# Altium integrated library NSC MiscPower.IntLib: 675 symbols (part 15 of 17)
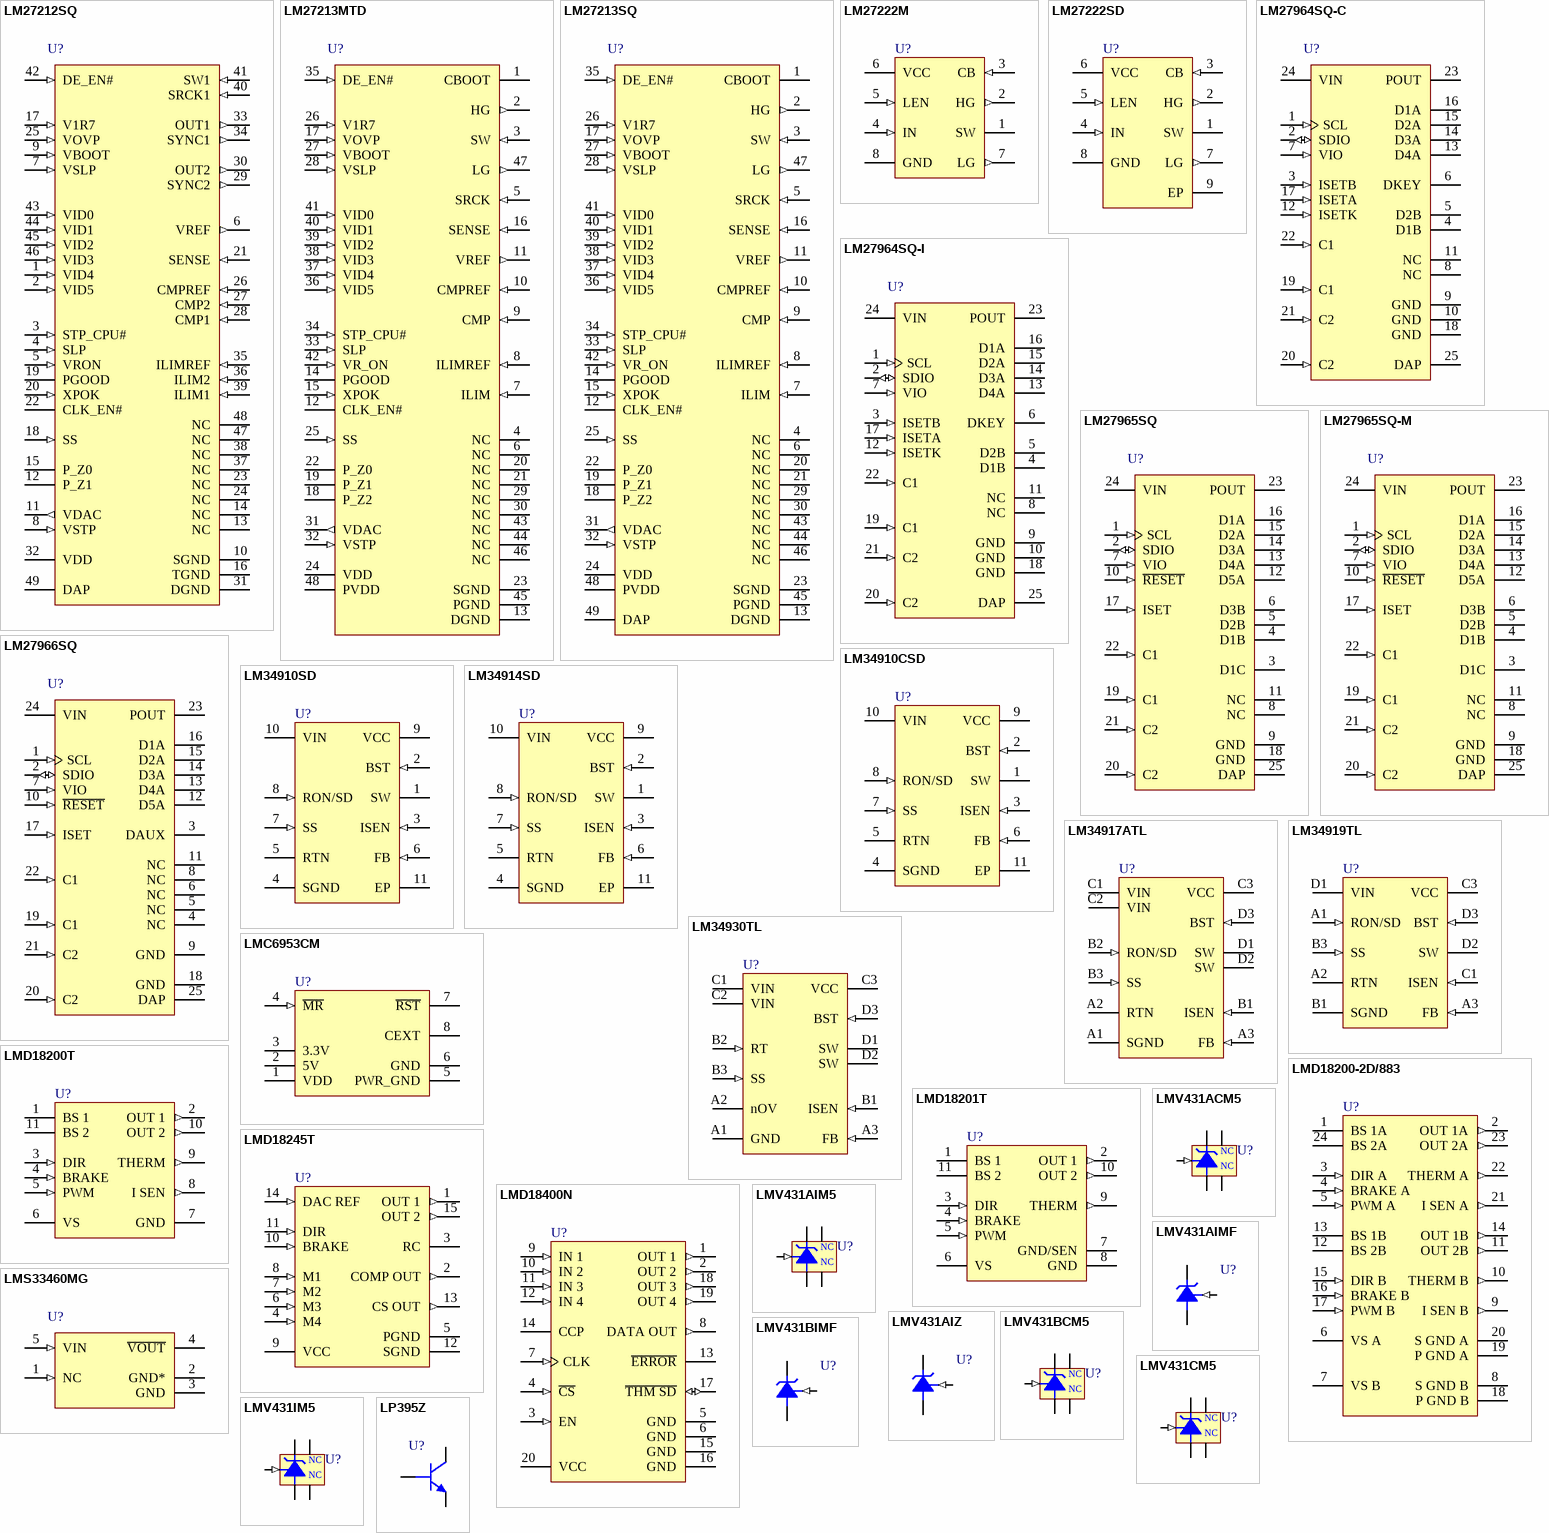
[diagram p36: symbols LM27212SQ to LP395Z]

## LMV431AIM5
designator U?
Low-Voltage (1.24V) Adjustable Precision Shunt Regulators; PartNumber: LMV431AIM5; Manufacturer: National Semiconductor; CompType: MiscPower; PackageTopMarking: N08A*XTT; Published: 4-Dec-2008; DatasheetVersion: May-2005; PackageVersion: revD, Aug-2008; PackageReference: MF05A; Publisher: Altium Limited; PackageDescription: Molded SOT-23, .115 x .063 x .040 in Body, 5 Lead, .0375 in Pitch; RoHS: O; PinCount: 5; DigiKeyPartNumber: LMV431AIM5CT-ND; Code_IPC: SOT23-5; ComponentLink1Description: LMV431A Datasheet; ComponentLink1URL: http://www.national.com/ds/LM/LMV431A.pdf; ComponentLink2Description: LMV431A Web Page; ComponentLink2URL: http://www.national.com/pf/LM/LMV431A.html; ComponentLink3Description: MF05A Package Page; ComponentLink3URL: http://www.national.com/packaging/folders/mf05a.html
footprint MF05A_N (SOT23, 5-Leads, Body 2.9x1.6mm, Pitch 0.95mm, Lead Span 2.8mm, IPC Medium Density)
footprint MF05A_L (SOT23, 5-Leads, Body 2.9x1.6mm, Pitch 0.95mm, Lead Span 2.8mm, IPC High Density)
footprint MF05A_M (SOT23, 5-Leads, Body 2.9x1.6mm, Pitch 0.95mm, Lead Span 2.8mm, IPC Low Density)
pins: 1 NC, 2 NC, 3 K, 4 REF (in), 5 A

## LMV431AIMF
designator U?
Low-Voltage (1.24V) Adjustable Precision Shunt Regulators; PartNumber: LMV431AIMF; Manufacturer: National Semiconductor; CompType: MiscPower; PackageTopMarking: RLA*XTT; Published: 4-Dec-2008; DatasheetVersion: May-2005; PackageVersion: revB, Mar-2003; PackageReference: MF03A; Publisher: Altium Limited; PackageDescription: Molded SOT-23, .115 x .051 x .037in Body, 3 Lead, .075 in Pitch; RoHS: Y; PinCount: 3; DigiKeyPartNumber: LMV431AIMF-ND; ComponentLink1Description: LMV431A Datasheet; ComponentLink1URL: http://www.national.com/ds/LM/LMV431A.pdf; ComponentLink2Description: LMV431A Web Page; ComponentLink2URL: http://www.national.com/pf/LM/LMV431A.html; ComponentLink3Description: MF03A Package Page; ComponentLink3URL: http://www.national.com/packaging/folders/mf03a.html
footprint MF03A_N (SOT23, 3-Leads, Body 2.9x1.3mm, Pitch 0.95mm, Lead Span 2.4mm, IPC Medium Density)
footprint MF03A_L (SOT23, 3-Leads, Body 2.9x1.3mm, Pitch 0.95mm, Lead Span 2.4mm, IPC High Density)
footprint MF03A_M (SOT23, 3-Leads, Body 2.9x1.3mm, Pitch 0.95mm, Lead Span 2.4mm, IPC Low Density)
pins: 1 REF (in), 2 K, 3 A

## LMV431AIZ
designator U?
Low-Voltage (1.24V) Adjustable Precision Shunt Regulators; PartNumber: LMV431AIZ; Manufacturer: National Semiconductor; CompType: MiscPower; PackageTopMarking: NSXYTT*LMV431*AIZ; Published: 4-Dec-2008; DatasheetVersion: May-2005; PackageVersion: revG, Sep-2000; PackageReference: Z03A; Publisher: Altium Limited; PackageDescription: TO-92, Molded, 3 Lead; RoHS: Y; PinCount: 3; DigiKeyPartNumber: LMV431AIZ-ND; Code_JEDEC: TO-226-AA; ComponentLink1Description: LMV431A Datasheet; ComponentLink1URL: http://www.national.com/ds/LM/LMV431A.pdf; ComponentLink2Description: LMV431A Web Page; ComponentLink2URL: http://www.national.com/pf/LM/LMV431A.html; ComponentLink3Description: Z03A Package Page; ComponentLink3URL: http://www.national.com/packaging/folders/z03a.html
footprint Z03A (TO, Flat Index; 3 In-Line, Axial Leads; Body Dia. 5mm; Leads 0.55 x 0.50 mm (max))
pins: 1 REF (in), 2 A, 3 K

## LMV431BCM5
designator U?
Low-Voltage (1.24V) Adjustable Precision Shunt Regulators; PartNumber: LMV431BCM5; Manufacturer: National Semiconductor; CompType: MiscPower; PackageTopMarking: N09C*XTT; Published: 4-Dec-2008; DatasheetVersion: May-2005; PackageVersion: revD, Aug-2008; PackageReference: MF05A; Publisher: Altium Limited; PackageDescription: Molded SOT-23, .115 x .063 x .040 in Body, 5 Lead, .0375 in Pitch; RoHS: Y; PinCount: 5; DigiKeyPartNumber: LMV431BCM5-ND; Code_IPC: SOT23-5; ComponentLink1Description: LMV431B Datasheet; ComponentLink1URL: http://www.national.com/ds/LM/LMV431B.pdf; ComponentLink2Description: LMV431B Web Page; ComponentLink2URL: http://www.national.com/pf/LM/LMV431B.html; ComponentLink3Description: MF05A Package Page; ComponentLink3URL: http://www.national.com/packaging/folders/mf05a.html
footprint MF05A_N (SOT23, 5-Leads, Body 2.9x1.6mm, Pitch 0.95mm, Lead Span 2.8mm, IPC Medium Density)
footprint MF05A_L (SOT23, 5-Leads, Body 2.9x1.6mm, Pitch 0.95mm, Lead Span 2.8mm, IPC High Density)
footprint MF05A_M (SOT23, 5-Leads, Body 2.9x1.6mm, Pitch 0.95mm, Lead Span 2.8mm, IPC Low Density)
pins: 1 NC, 2 NC, 3 K, 4 REF (in), 5 A

## LMV431BIMF
designator U?
Low-Voltage (1.24V) Adjustable Precision Shunt Regulators; PartNumber: LMV431BIMF; Manufacturer: National Semiconductor; CompType: MiscPower; PackageTopMarking: RLB*XTT; Published: 4-Dec-2008; DatasheetVersion: May-2005; PackageVersion: revB, Mar-2003; PackageReference: MF03A; Publisher: Altium Limited; PackageDescription: Molded SOT-23, .115 x .051 x .037in Body, 3 Lead, .075 in Pitch; RoHS: Y; PinCount: 3; DigiKeyPartNumber: LMV431BIMF-ND; ComponentLink1Description: LMV431B Datasheet; ComponentLink1URL: http://www.national.com/ds/LM/LMV431B.pdf; ComponentLink2Description: LMV431B Web Page; ComponentLink2URL: http://www.national.com/pf/LM/LMV431B.html; ComponentLink3Description: MF03A Package Page; ComponentLink3URL: http://www.national.com/packaging/folders/mf03a.html
footprint MF03A_N (SOT23, 3-Leads, Body 2.9x1.3mm, Pitch 0.95mm, Lead Span 2.4mm, IPC Medium Density)
footprint MF03A_L (SOT23, 3-Leads, Body 2.9x1.3mm, Pitch 0.95mm, Lead Span 2.4mm, IPC High Density)
footprint MF03A_M (SOT23, 3-Leads, Body 2.9x1.3mm, Pitch 0.95mm, Lead Span 2.4mm, IPC Low Density)
pins: 1 REF (in), 2 K, 3 A

## LMV431CM5
designator U?
Low-Voltage (1.24V) Adjustable Precision Shunt Regulators; PartNumber: LMV431CM5; Manufacturer: National Semiconductor; CompType: MiscPower; PackageTopMarking: N09B*XTT; Published: 4-Dec-2008; DatasheetVersion: May-2005; PackageVersion: revD, Aug-2008; PackageReference: MF05A; Publisher: Altium Limited; PackageDescription: Molded SOT-23, .115 x .063 x .040 in Body, 5 Lead, .0375 in Pitch; RoHS: O; PinCount: 5; DigiKeyPartNumber: LMV431CM5CT-ND; Code_IPC: SOT23-5; ComponentLink1Description: LMV431 Datasheet; ComponentLink1URL: http://www.national.com/ds/LM/LMV431.pdf; ComponentLink2Description: LMV431 Web Page; ComponentLink2URL: http://www.national.com/pf/LM/LMV431.html; ComponentLink3Description: MF05A Package Page; ComponentLink3URL: http://www.national.com/packaging/folders/mf05a.html
footprint MF05A_N (SOT23, 5-Leads, Body 2.9x1.6mm, Pitch 0.95mm, Lead Span 2.8mm, IPC Medium Density)
footprint MF05A_L (SOT23, 5-Leads, Body 2.9x1.6mm, Pitch 0.95mm, Lead Span 2.8mm, IPC High Density)
footprint MF05A_M (SOT23, 5-Leads, Body 2.9x1.6mm, Pitch 0.95mm, Lead Span 2.8mm, IPC Low Density)
pins: 1 NC, 2 NC, 3 K, 4 REF (in), 5 A

## LMV431IM5
designator U?
Low-Voltage (1.24V) Adjustable Precision Shunt Regulators; PartNumber: LMV431IM5; Manufacturer: National Semiconductor; CompType: MiscPower; PackageTopMarking: N08B*XTT; Published: 4-Dec-2008; DatasheetVersion: May-2005; PackageVersion: revD, Aug-2008; PackageReference: MF05A; Publisher: Altium Limited; PackageDescription: Molded SOT-23, .115 x .063 x .040 in Body, 5 Lead, .0375 in Pitch; RoHS: O; PinCount: 5; DigiKeyPartNumber: LMV431IM5CT-ND; Code_IPC: SOT23-5; ComponentLink1Description: LMV431 Datasheet; ComponentLink1URL: http://www.national.com/ds/LM/LMV431.pdf; ComponentLink2Description: LMV431 Web Page; ComponentLink2URL: http://www.national.com/pf/LM/LMV431.html; ComponentLink3Description: MF05A Package Page; ComponentLink3URL: http://www.national.com/packaging/folders/mf05a.html
footprint MF05A_N (SOT23, 5-Leads, Body 2.9x1.6mm, Pitch 0.95mm, Lead Span 2.8mm, IPC Medium Density)
footprint MF05A_L (SOT23, 5-Leads, Body 2.9x1.6mm, Pitch 0.95mm, Lead Span 2.8mm, IPC High Density)
footprint MF05A_M (SOT23, 5-Leads, Body 2.9x1.6mm, Pitch 0.95mm, Lead Span 2.8mm, IPC Low Density)
pins: 1 NC, 2 NC, 3 K, 4 REF (in), 5 A

## LP395Z
designator U?
Ultra Reliable Power Transistor; PartNumber: LP395Z; Manufacturer: National Semiconductor; CompType: MiscPower; PackageTopMarking: NSXYTT*LP*395Z; Published: 4-Dec-2008; DatasheetVersion: Apr-2005; PackageVersion: revG, Sep-2000; PackageReference: Z03A; Publisher: Altium Limited; PackageDescription: TO-92, Molded, 3 Lead; RoHS: O; PinCount: 3; DigiKeyPartNumber: LP395Z-ND; Code_JEDEC: TO-226-AA; ComponentLink1Description: LP395 Datasheet; ComponentLink1URL: http://www.national.com/ds/LP/LP395.pdf; ComponentLink2Description: LP395 Web Page; ComponentLink2URL: http://www.national.com/pf/LP/LP395.html; ComponentLink3Description: Z03A Package Page; ComponentLink3URL: http://www.national.com/packaging/folders/z03a.html
footprint Z03A (TO, Flat Index; 3 In-Line, Axial Leads; Body Dia. 5mm; Leads 0.55 x 0.50 mm (max))
pins: 1 C, 2 B, 3 E

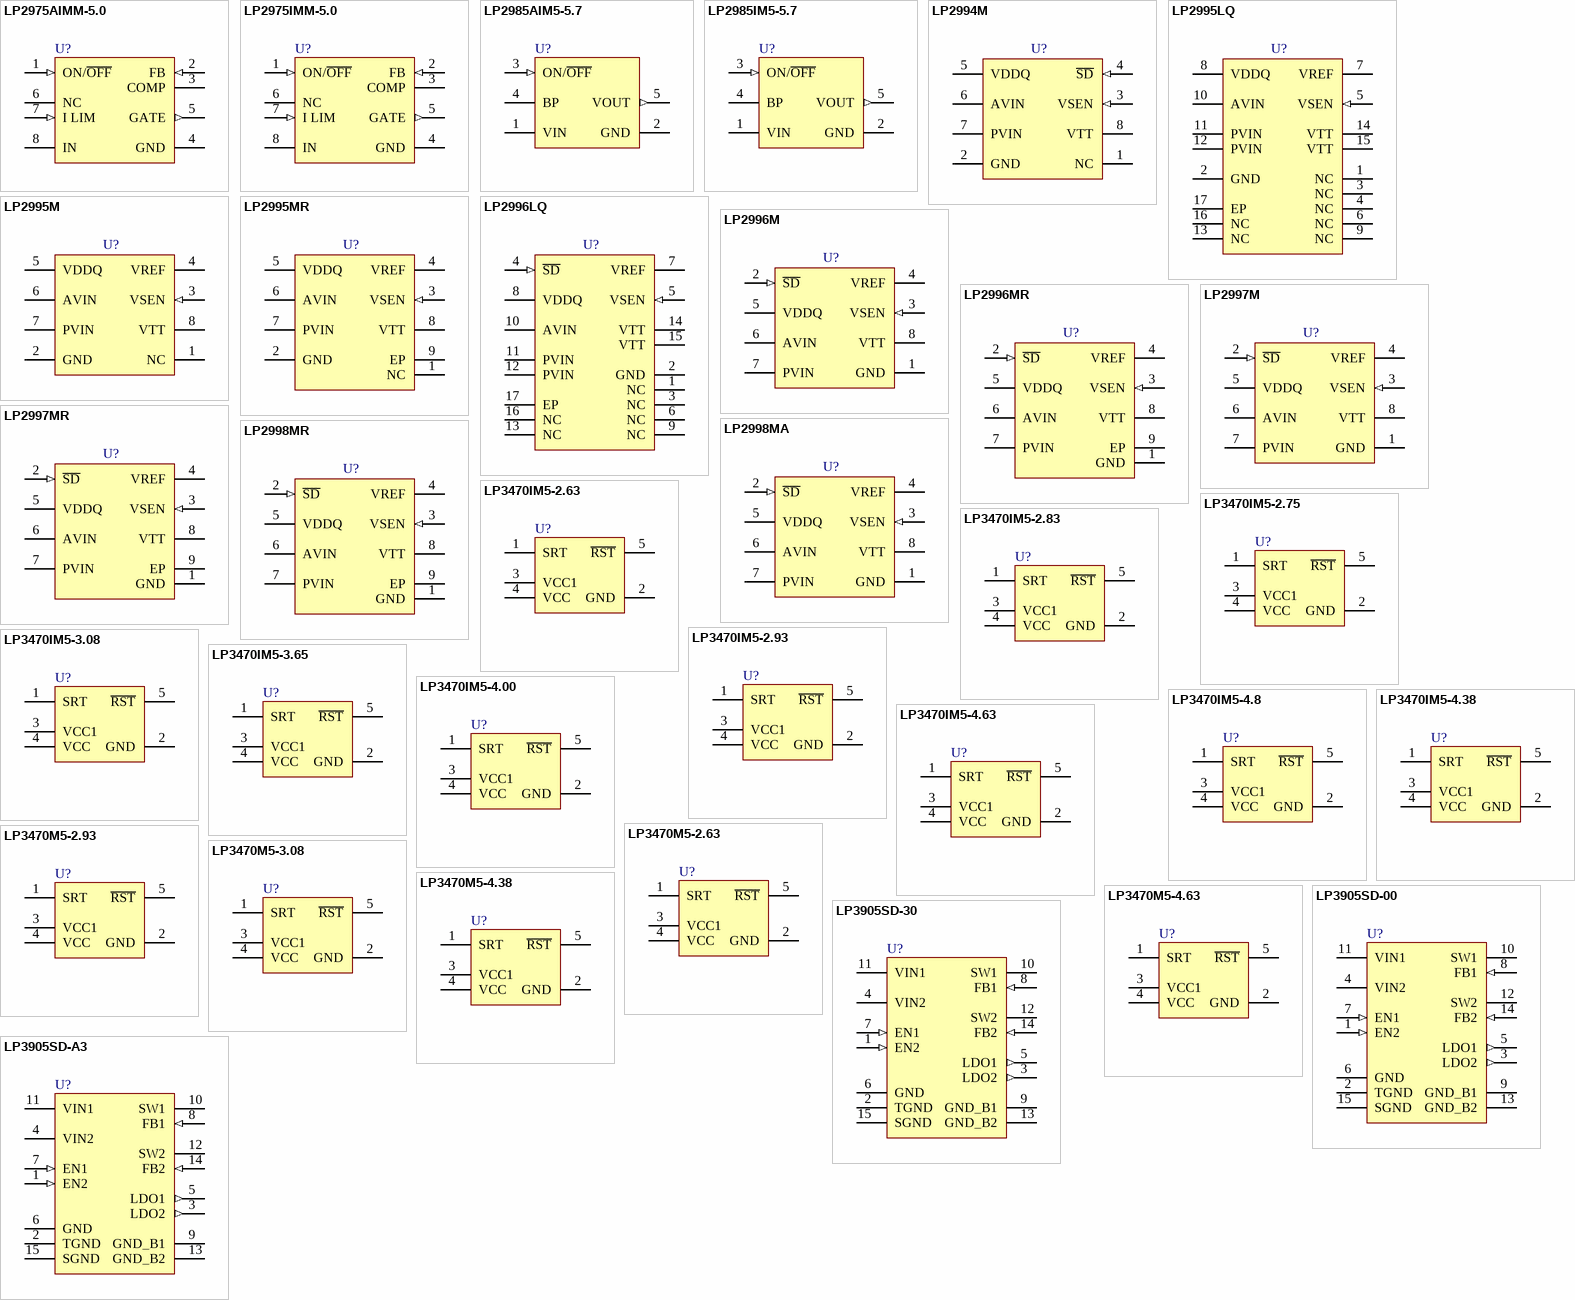
[diagram p17: symbols LP2975AIMM-5.0 to LP3905SD-A3]

## LP2975AIMM-5.0
designator U?
MOSFET LDO Driver/Controller; PartNumber: LP2975AIMM-5.0; Manufacturer: National Semiconductor; CompType: MiscPower; PackageTopMarking: ZXTT*L46A; Published: 4-Dec-2008; DatasheetVersion: Mar-2005; PackageVersion: revF, Apr-2008; PackageReference: MUA08A; Publisher: Altium Limited; PackageDescription: MINI SOIC, .118 x .118 x .034in, 8 Lead, .0256in Pitch; RoHS: O; PinCount: 8; DigiKeyPartNumber: LP2975AIMM-5.0CT-ND; Code_JEDEC: MO-187-AA; ComponentLink1Description: LP2975 Datasheet; ComponentLink1URL: http://www.national.com/ds/LP/LP2975.pdf; ComponentLink2Description: LP2975 Web Page; ComponentLink2URL: http://www.national.com/pf/LP/LP2975.html; ComponentLink3Description: MUA08A Package Page; ComponentLink3URL: http://www.national.com/packaging/folders/mua08a.html
footprint MUA08A_N (TSOP, 8-Leads, Body 3x3mm, Pitch 0.65mm, IPC Medium Density)
footprint MUA08A_L (TSOP, 8-Leads, Body 3x3mm, Pitch 0.65mm, IPC High Density)
footprint MUA08A_M (TSOP, 8-Leads, Body 3x3mm, Pitch 0.65mm, IPC Low Density)
pins: 1 ON/~{OFF} (in), 2 FB (in), 3 COMP, 4 GND (power), 5 GATE (out), 6 NC, 7 I LIM (in), 8 IN (power)

## LP2975IMM-5.0
designator U?
MOSFET LDO Driver/Controller; PartNumber: LP2975IMM-5.0; Manufacturer: National Semiconductor; CompType: MiscPower; PackageTopMarking: ZXTT*L46B; Published: 4-Dec-2008; DatasheetVersion: Mar-2005; PackageVersion: revF, Apr-2008; PackageReference: MUA08A; Publisher: Altium Limited; PackageDescription: MINI SOIC, .118 x .118 x .034in, 8 Lead, .0256in Pitch; RoHS: Y; PinCount: 8; DigiKeyPartNumber: LP2975IMM-5.0CT-ND; Code_JEDEC: MO-187-AA; ComponentLink1Description: LP2975 Datasheet; ComponentLink1URL: http://www.national.com/ds/LP/LP2975.pdf; ComponentLink2Description: LP2975 Web Page; ComponentLink2URL: http://www.national.com/pf/LP/LP2975.html; ComponentLink3Description: MUA08A Package Page; ComponentLink3URL: http://www.national.com/packaging/folders/mua08a.html
footprint MUA08A_N (TSOP, 8-Leads, Body 3x3mm, Pitch 0.65mm, IPC Medium Density)
footprint MUA08A_L (TSOP, 8-Leads, Body 3x3mm, Pitch 0.65mm, IPC High Density)
footprint MUA08A_M (TSOP, 8-Leads, Body 3x3mm, Pitch 0.65mm, IPC Low Density)
pins: 1 ON/~{OFF} (in), 2 FB (in), 3 COMP, 4 GND (power), 5 GATE (out), 6 NC, 7 I LIM (in), 8 IN (power)

## LP2985AIM5-5.7
designator U?
Micropower 150 mA Low-Noise Ultra Low-Dropout Regulator in  SOT-23 and micro SMD Packages; PartNumber: LP2985AIM5-5.7; Manufacturer: National Semiconductor; CompType: MiscPower; PackageTopMarking: LKTA*XTT; Published: 4-Dec-2008; DatasheetVersion: Jul-2007; PackageVersion: revD, Aug-2008; PackageReference: MF05A; Publisher: Altium Limited; PackageDescription: Molded SOT-23, .115 x .063 x .040 in Body, 5 Lead, .0375 in Pitch; RoHS: Y; PinCount: 5; Code_IPC: SOT23-5; ComponentLink1Description: LP2985 Datasheet; ComponentLink1URL: http://www.national.com/ds/LP/LP2985.pdf; ComponentLink2Description: LP2985 Web Page; ComponentLink2URL: http://www.national.com/pf/LP/LP2985.html; ComponentLink3Description: MF05A Package Page; ComponentLink3URL: http://www.national.com/packaging/folders/mf05a.html
footprint MF05A_N (SOT23, 5-Leads, Body 2.9x1.6mm, Pitch 0.95mm, Lead Span 2.8mm, IPC Medium Density)
footprint MF05A_L (SOT23, 5-Leads, Body 2.9x1.6mm, Pitch 0.95mm, Lead Span 2.8mm, IPC High Density)
footprint MF05A_M (SOT23, 5-Leads, Body 2.9x1.6mm, Pitch 0.95mm, Lead Span 2.8mm, IPC Low Density)
pins: 1 VIN (power), 2 GND (power), 3 ON/~{OFF} (in), 4 BP, 5 VOUT (out)

## LP2985IM5-5.7
designator U?
Micropower 150 mA Low-Noise Ultra Low-Dropout Regulator in  SOT-23 and micro SMD Packages; PartNumber: LP2985IM5-5.7; Manufacturer: National Semiconductor; CompType: MiscPower; PackageTopMarking: LKTB*XTT; Published: 4-Dec-2008; DatasheetVersion: Jul-2007; PackageVersion: revD, Aug-2008; PackageReference: MF05A; Publisher: Altium Limited; PackageDescription: Molded SOT-23, .115 x .063 x .040 in Body, 5 Lead, .0375 in Pitch; RoHS: Y; PinCount: 5; Code_IPC: SOT23-5; ComponentLink1Description: LP2985 Datasheet; ComponentLink1URL: http://www.national.com/ds/LP/LP2985.pdf; ComponentLink2Description: LP2985 Web Page; ComponentLink2URL: http://www.national.com/pf/LP/LP2985.html; ComponentLink3Description: MF05A Package Page; ComponentLink3URL: http://www.national.com/packaging/folders/mf05a.html
footprint MF05A_N (SOT23, 5-Leads, Body 2.9x1.6mm, Pitch 0.95mm, Lead Span 2.8mm, IPC Medium Density)
footprint MF05A_L (SOT23, 5-Leads, Body 2.9x1.6mm, Pitch 0.95mm, Lead Span 2.8mm, IPC High Density)
footprint MF05A_M (SOT23, 5-Leads, Body 2.9x1.6mm, Pitch 0.95mm, Lead Span 2.8mm, IPC Low Density)
pins: 1 VIN (power), 2 GND (power), 3 ON/~{OFF} (in), 4 BP, 5 VOUT (out)

## LP2994M
designator U?
DDR Termination Regulator; PartNumber: LP2994M; Manufacturer: National Semiconductor; CompType: MiscPower; PackageTopMarking: NSZXTT*2994M; Published: 4-Dec-2008; DatasheetVersion: Jun-2005; PackageVersion: revL, Sep-2006; PackageReference: M08A; Publisher: Altium Limited; PackageDescription: SOIC Narrow, 4.9 x 3.9 x 1.45mm, 8 Lead, 1.27mm Pitch; RoHS: Y; PinCount: 8; DigiKeyPartNumber: LP2994M-ND; Code_JEDEC: MS-012-AA; Code_IPC: SOIC127P600-8; ComponentLink1Description: LP2994 Datasheet; ComponentLink1URL: http://www.national.com/ds/LP/LP2994.pdf; ComponentLink2Description: LP2994 Web Page; ComponentLink2URL: http://www.national.com/pf/LP/LP2994.html; ComponentLink3Description: M08A Package Page; ComponentLink3URL: http://www.national.com/packaging/folders/m08a.html
footprint M08A_N (SOIC, 8-Leads, Body 4.9x3.9mm, Pitch 1.27mm, IPC Medium Density)
footprint M08A_L (SOIC, 8-Leads, Body 4.9x3.9mm, Pitch 1.27mm, IPC High Density)
footprint M08A_M (SOIC, 8-Leads, Body 4.9x3.9mm, Pitch 1.27mm, IPC Low Density)
pins: 1 NC, 2 GND (power), 3 VSEN (in), 4 ~{SD} (in), 5 VDDQ (power), 6 AVIN (power), 7 PVIN (power), 8 VTT (power)

## LP2995LQ
designator U?
DDR Termination Regulator; PartNumber: LP2995LQ; Manufacturer: National Semiconductor; CompType: MiscPower; PackageTopMarking: NS*UZXYTT*L00005B; Published: 4-Dec-2008; DatasheetVersion: Jun-2006; PackageVersion: revA, Apr-2000; PackageReference: LQA16A; Publisher: Altium Limited; PackageDescription: LLP, Plastic, Quad, 4 x 4 x 0.75mm Body, 16 Lead, 0.5mm Pitch; RoHS: O; PinCount: 16; DigiKeyPartNumber: LP2995LQCT-ND; ComponentLink1Description: LP2995 Datasheet; ComponentLink1URL: http://www.national.com/ds/LP/LP2995.pdf; ComponentLink2Description: LP2995 Web Page; ComponentLink2URL: http://www.national.com/pf/LP/LP2995.html; ComponentLink3Description: LQA16A Package Page; ComponentLink3URL: http://www.national.com/packaging/folders/lqa16a.html
footprint LQA16A (QFN, 16-Leads, Body 4x4mm, Pitch 0.5mm, NSC Recommended)
pins: 1 NC, 2 GND (power), 3 NC, 4 NC, 5 VSEN (in), 6 NC, 7 VREF, 8 VDDQ (power), 9 NC, 10 AVIN (power), 11 PVIN (power), 12 PVIN (power), 13 NC, 14 VTT (power), 15 VTT (power), 16 NC, 17 EP (power)

## LP2995M
designator U?
DDR Termination Regulator; PartNumber: LP2995M; Manufacturer: National Semiconductor; CompType: MiscPower; PackageTopMarking: NSZXTT*2995M; Published: 4-Dec-2008; DatasheetVersion: Jun-2006; PackageVersion: revL, Sep-2006; PackageReference: M08A; Publisher: Altium Limited; PackageDescription: SOIC Narrow, 4.9 x 3.9 x 1.45mm, 8 Lead, 1.27mm Pitch; RoHS: O; PinCount: 8; DigiKeyPartNumber: LP2995M-ND; Code_JEDEC: MS-012-AA; Code_IPC: SOIC127P600-8; ComponentLink1Description: LP2995 Datasheet; ComponentLink1URL: http://www.national.com/ds/LP/LP2995.pdf; ComponentLink2Description: LP2995 Web Page; ComponentLink2URL: http://www.national.com/pf/LP/LP2995.html; ComponentLink3Description: M08A Package Page; ComponentLink3URL: http://www.national.com/packaging/folders/m08a.html
footprint M08A_N (SOIC, 8-Leads, Body 4.9x3.9mm, Pitch 1.27mm, IPC Medium Density)
footprint M08A_L (SOIC, 8-Leads, Body 4.9x3.9mm, Pitch 1.27mm, IPC High Density)
footprint M08A_M (SOIC, 8-Leads, Body 4.9x3.9mm, Pitch 1.27mm, IPC Low Density)
pins: 1 NC, 2 GND (power), 3 VSEN (in), 4 VREF, 5 VDDQ (power), 6 AVIN (power), 7 PVIN (power), 8 VTT (power)

## LP2995MR
designator U?
DDR Termination Regulator; PartNumber: LP2995MR; Manufacturer: National Semiconductor; CompType: MiscPower; PackageTopMarking: NSXYTT*LP2995; Published: 4-Dec-2008; DatasheetVersion: Jun-2006; PackageVersion: revD, Dec-2007; PackageReference: MRA08A; Publisher: Altium Limited; PackageDescription: Molded, PSOP .193 x .154 x .058in, 8 Lead, .050in Pitch; RoHS: O; PinCount: 8; DigiKeyPartNumber: LP2995MR-ND; Code_JEDEC: MS-012-AA; ComponentLink1Description: LP2995 Datasheet; ComponentLink1URL: http://www.national.com/ds/LP/LP2995.pdf; ComponentLink2Description: LP2995 Web Page; ComponentLink2URL: http://www.national.com/pf/LP/LP2995.html; ComponentLink3Description: MRA08A Package Page; ComponentLink3URL: http://www.national.com/packaging/folders/mra08a.html
footprint MRA08A_N (SOIC, 8-Leads, Body 4.9x3.9mm, Pitch 1.27mm, Exposed Pad, IPC Medium Density)
footprint MRA08A_L (SOIC, 8-Leads, Body 4.9x3.9mm, Pitch 1.27mm, Exposed Pad, IPC High Density)
footprint MRA08A_M (SOIC, 8-Leads, Body 4.9x3.9mm, Pitch 1.27mm, Exposed Pad, IPC Low Density)
pins: 1 NC, 2 GND (power), 3 VSEN (in), 4 VREF, 5 VDDQ (power), 6 AVIN (power), 7 PVIN (power), 8 VTT (power), 9 EP (power)

## LP2996LQ
designator U?
DDR Termination Regulator; PartNumber: LP2996LQ; Manufacturer: National Semiconductor; CompType: MiscPower; PackageTopMarking: NS*UZXYTT*L00006B; Published: 4-Dec-2008; DatasheetVersion: Jun-2006; PackageVersion: revA, Apr-2000; PackageReference: LQA16A; Publisher: Altium Limited; PackageDescription: LLP, Plastic, Quad, 4 x 4 x 0.75mm Body, 16 Lead, 0.5mm Pitch; RoHS: O; PinCount: 16; DigiKeyPartNumber: LP2996LQCT-ND; ComponentLink1Description: LP2996 Datasheet; ComponentLink1URL: http://www.national.com/ds/LP/LP2996.pdf; ComponentLink2Description: LP2996 Web Page; ComponentLink2URL: http://www.national.com/pf/LP/LP2996.html; ComponentLink3Description: LQA16A Package Page; ComponentLink3URL: http://www.national.com/packaging/folders/lqa16a.html
footprint LQA16A (QFN, 16-Leads, Body 4x4mm, Pitch 0.5mm, NSC Recommended)
pins: 1 NC, 2 GND (power), 3 NC, 4 ~{SD} (in), 5 VSEN (in), 6 NC, 7 VREF, 8 VDDQ (power), 9 NC, 10 AVIN (power), 11 PVIN (power), 12 PVIN (power), 13 NC, 14 VTT (power), 15 VTT (power), 16 NC, 17 EP (power)

## LP2996M
designator U?
DDR Termination Regulator; PartNumber: LP2996M; Manufacturer: National Semiconductor; CompType: MiscPower; PackageTopMarking: NSZXTT*2996M; Published: 4-Dec-2008; DatasheetVersion: Jun-2006; PackageVersion: revL, Sep-2006; PackageReference: M08A; Publisher: Altium Limited; PackageDescription: SOIC Narrow, 4.9 x 3.9 x 1.45mm, 8 Lead, 1.27mm Pitch; RoHS: Y; PinCount: 8; DigiKeyPartNumber: LP2996M-ND; Code_JEDEC: MS-012-AA; Code_IPC: SOIC127P600-8; ComponentLink1Description: LP2996 Datasheet; ComponentLink1URL: http://www.national.com/ds/LP/LP2996.pdf; ComponentLink2Description: LP2996 Web Page; ComponentLink2URL: http://www.national.com/pf/LP/LP2996.html; ComponentLink3Description: M08A Package Page; ComponentLink3URL: http://www.national.com/packaging/folders/m08a.html
footprint M08A_N (SOIC, 8-Leads, Body 4.9x3.9mm, Pitch 1.27mm, IPC Medium Density)
footprint M08A_L (SOIC, 8-Leads, Body 4.9x3.9mm, Pitch 1.27mm, IPC High Density)
footprint M08A_M (SOIC, 8-Leads, Body 4.9x3.9mm, Pitch 1.27mm, IPC Low Density)
pins: 1 GND (power), 2 ~{SD} (in), 3 VSEN (in), 4 VREF, 5 VDDQ (power), 6 AVIN (power), 7 PVIN (power), 8 VTT (power)

## LP2996MR
designator U?
DDR Termination Regulator; PartNumber: LP2996MR; Manufacturer: National Semiconductor; CompType: MiscPower; PackageTopMarking: NSXYTT*LP2996; Published: 4-Dec-2008; DatasheetVersion: Jun-2006; PackageVersion: revD, Dec-2007; PackageReference: MRA08A; Publisher: Altium Limited; PackageDescription: Molded, PSOP .193 x .154 x .058in, 8 Lead, .050in Pitch; RoHS: O; PinCount: 8; DigiKeyPartNumber: LP2996MR-ND; Code_JEDEC: MS-012-AA; ComponentLink1Description: LP2996 Datasheet; ComponentLink1URL: http://www.national.com/ds/LP/LP2996.pdf; ComponentLink2Description: LP2996 Web Page; ComponentLink2URL: http://www.national.com/pf/LP/LP2996.html; ComponentLink3Description: MRA08A Package Page; ComponentLink3URL: http://www.national.com/packaging/folders/mra08a.html
footprint MRA08A_N (SOIC, 8-Leads, Body 4.9x3.9mm, Pitch 1.27mm, Exposed Pad, IPC Medium Density)
footprint MRA08A_L (SOIC, 8-Leads, Body 4.9x3.9mm, Pitch 1.27mm, Exposed Pad, IPC High Density)
footprint MRA08A_M (SOIC, 8-Leads, Body 4.9x3.9mm, Pitch 1.27mm, Exposed Pad, IPC Low Density)
pins: 1 GND (power), 2 ~{SD} (in), 3 VSEN (in), 4 VREF, 5 VDDQ (power), 6 AVIN (power), 7 PVIN (power), 8 VTT (power), 9 EP (power)

## LP2997M
designator U?
DDR-II Termination Regulator; PartNumber: LP2997M; Manufacturer: National Semiconductor; CompType: MiscPower; PackageTopMarking: NSZXTT*L2997*M; Published: 4-Dec-2008; DatasheetVersion: Jun-2006; PackageVersion: revL, Sep-2006; PackageReference: M08A; Publisher: Altium Limited; PackageDescription: SOIC Narrow, 4.9 x 3.9 x 1.45mm, 8 Lead, 1.27mm Pitch; RoHS: Y; PinCount: 8; DigiKeyPartNumber: LP2997M-ND; Code_JEDEC: MS-012-AA; Code_IPC: SOIC127P600-8; ComponentLink1Description: LP2997 Datasheet; ComponentLink1URL: http://www.national.com/ds/LP/LP2997.pdf; ComponentLink2Description: LP2997 Web Page; ComponentLink2URL: http://www.national.com/pf/LP/LP2997.html; ComponentLink3Description: M08A Package Page; ComponentLink3URL: http://www.national.com/packaging/folders/m08a.html
footprint M08A_N (SOIC, 8-Leads, Body 4.9x3.9mm, Pitch 1.27mm, IPC Medium Density)
footprint M08A_L (SOIC, 8-Leads, Body 4.9x3.9mm, Pitch 1.27mm, IPC High Density)
footprint M08A_M (SOIC, 8-Leads, Body 4.9x3.9mm, Pitch 1.27mm, IPC Low Density)
pins: 1 GND (power), 2 ~{SD} (in), 3 VSEN (in), 4 VREF, 5 VDDQ (power), 6 AVIN (power), 7 PVIN (power), 8 VTT (power)

## LP2997MR
designator U?
DDR-II Termination Regulator; PartNumber: LP2997MR; Manufacturer: National Semiconductor; CompType: MiscPower; PackageTopMarking: NSXYTT*L2997*MR; Published: 4-Dec-2008; DatasheetVersion: Jun-2006; PackageVersion: revD, Dec-2007; PackageReference: MRA08A; Publisher: Altium Limited; PackageDescription: Molded, PSOP .193 x .154 x .058in, 8 Lead, .050in Pitch; RoHS: Y; PinCount: 8; DigiKeyPartNumber: LP2997MR-ND; Code_JEDEC: MS-012-AA; ComponentLink1Description: LP2997 Datasheet; ComponentLink1URL: http://www.national.com/ds/LP/LP2997.pdf; ComponentLink2Description: LP2997 Web Page; ComponentLink2URL: http://www.national.com/pf/LP/LP2997.html; ComponentLink3Description: MRA08A Package Page; ComponentLink3URL: http://www.national.com/packaging/folders/mra08a.html
footprint MRA08A_N (SOIC, 8-Leads, Body 4.9x3.9mm, Pitch 1.27mm, Exposed Pad, IPC Medium Density)
footprint MRA08A_L (SOIC, 8-Leads, Body 4.9x3.9mm, Pitch 1.27mm, Exposed Pad, IPC High Density)
footprint MRA08A_M (SOIC, 8-Leads, Body 4.9x3.9mm, Pitch 1.27mm, Exposed Pad, IPC Low Density)
pins: 1 GND (power), 2 ~{SD} (in), 3 VSEN (in), 4 VREF, 5 VDDQ (power), 6 AVIN (power), 7 PVIN (power), 8 VTT (power), 9 EP (power)

## LP2998MA
designator U?
DDR-II and DDR-I Termination Regulator; PartNumber: LP2998MA; Manufacturer: National Semiconductor; CompType: MiscPower; PackageTopMarking: NSZXTT*LP2998*MA; Published: 4-Dec-2008; DatasheetVersion: Apr-2008; PackageVersion: revL, Sep-2006; PackageReference: M08A; Publisher: Altium Limited; PackageDescription: SOIC Narrow, 4.9 x 3.9 x 1.45mm, 8 Lead, 1.27mm Pitch; RoHS: Y; PinCount: 8; DigiKeyPartNumber: LP2998MA-ND; Code_JEDEC: MS-012-AA; Code_IPC: SOIC127P600-8; ComponentLink1Description: LP2998 Datasheet; ComponentLink1URL: http://www.national.com/ds/LP/LP2998.pdf; ComponentLink2Description: LP2998 Web Page; ComponentLink2URL: http://www.national.com/pf/LP/LP2998.html; ComponentLink3Description: M08A Package Page; ComponentLink3URL: http://www.national.com/packaging/folders/m08a.html
footprint M08A_N (SOIC, 8-Leads, Body 4.9x3.9mm, Pitch 1.27mm, IPC Medium Density)
footprint M08A_L (SOIC, 8-Leads, Body 4.9x3.9mm, Pitch 1.27mm, IPC High Density)
footprint M08A_M (SOIC, 8-Leads, Body 4.9x3.9mm, Pitch 1.27mm, IPC Low Density)
pins: 1 GND (power), 2 ~{SD} (in), 3 VSEN (in), 4 VREF, 5 VDDQ (power), 6 AVIN (power), 7 PVIN (power), 8 VTT (power)

## LP2998MR
designator U?
DDR-II and DDR-I Termination Regulator; PartNumber: LP2998MR; Manufacturer: National Semiconductor; CompType: MiscPower; PackageTopMarking: NSXYTT*LP2998*MR; Published: 4-Dec-2008; DatasheetVersion: Apr-2008; PackageVersion: revD, Dec-2007; PackageReference: MRA08A; Publisher: Altium Limited; PackageDescription: Molded, PSOP .193 x .154 x .058in, 8 Lead, .050in Pitch; RoHS: Y; PinCount: 8; DigiKeyPartNumber: LP2998MR-ND; Code_JEDEC: MS-012-AA; ComponentLink1Description: LP2998 Datasheet; ComponentLink1URL: http://www.national.com/ds/LP/LP2998.pdf; ComponentLink2Description: LP2998 Web Page; ComponentLink2URL: http://www.national.com/pf/LP/LP2998.html; ComponentLink3Description: MRA08A Package Page; ComponentLink3URL: http://www.national.com/packaging/folders/mra08a.html
footprint MRA08A_N (SOIC, 8-Leads, Body 4.9x3.9mm, Pitch 1.27mm, Exposed Pad, IPC Medium Density)
footprint MRA08A_L (SOIC, 8-Leads, Body 4.9x3.9mm, Pitch 1.27mm, Exposed Pad, IPC High Density)
footprint MRA08A_M (SOIC, 8-Leads, Body 4.9x3.9mm, Pitch 1.27mm, Exposed Pad, IPC Low Density)
pins: 1 GND (power), 2 ~{SD} (in), 3 VSEN (in), 4 VREF, 5 VDDQ (power), 6 AVIN (power), 7 PVIN (power), 8 VTT (power), 9 EP (power)

## LP3470IM5-2.63
designator U?
Tiny Power On Reset Circuit; PartNumber: LP3470IM5-2.63; Manufacturer: National Semiconductor; CompType: MiscPower; PackageTopMarking: D25C*XTT; Published: 4-Dec-2008; DatasheetVersion: Sep-2007; PackageVersion: revD, Aug-2008; PackageReference: MF05A; Publisher: Altium Limited; PackageDescription: Molded SOT-23, .115 x .063 x .040 in Body, 5 Lead, .0375 in Pitch; RoHS: Y; PinCount: 5; DigiKeyPartNumber: LP3470IM5-2.63CT-ND; Code_IPC: SOT23-5; ComponentLink1Description: LP3470 Datasheet; ComponentLink1URL: http://www.national.com/ds/LP/LP3470.pdf; ComponentLink2Description: LP3470 Web Page; ComponentLink2URL: http://www.national.com/pf/LP/LP3470.html; ComponentLink3Description: MF05A Package Page; ComponentLink3URL: http://www.national.com/packaging/folders/mf05a.html
footprint MF05A_N (SOT23, 5-Leads, Body 2.9x1.6mm, Pitch 0.95mm, Lead Span 2.8mm, IPC Medium Density)
footprint MF05A_L (SOT23, 5-Leads, Body 2.9x1.6mm, Pitch 0.95mm, Lead Span 2.8mm, IPC High Density)
footprint MF05A_M (SOT23, 5-Leads, Body 2.9x1.6mm, Pitch 0.95mm, Lead Span 2.8mm, IPC Low Density)
pins: 1 SRT, 2 GND (power), 3 VCC1 (power), 4 VCC (power), 5 ~{RST} (oc)

## LP3470IM5-2.75
designator U?
Tiny Power On Reset Circuit; PartNumber: LP3470IM5-2.75; Manufacturer: National Semiconductor; CompType: MiscPower; PackageTopMarking: D38C*XTT; Published: 4-Dec-2008; DatasheetVersion: Sep-2007; PackageVersion: revD, Aug-2008; PackageReference: MF05A; Publisher: Altium Limited; PackageDescription: Molded SOT-23, .115 x .063 x .040 in Body, 5 Lead, .0375 in Pitch; RoHS: Y; PinCount: 5; DigiKeyPartNumber: LP3470IM5-2.75-ND; Code_IPC: SOT23-5; ComponentLink1Description: LP3470 Datasheet; ComponentLink1URL: http://www.national.com/ds/LP/LP3470.pdf; ComponentLink2Description: LP3470 Web Page; ComponentLink2URL: http://www.national.com/pf/LP/LP3470.html; ComponentLink3Description: MF05A Package Page; ComponentLink3URL: http://www.national.com/packaging/folders/mf05a.html
footprint MF05A_N (SOT23, 5-Leads, Body 2.9x1.6mm, Pitch 0.95mm, Lead Span 2.8mm, IPC Medium Density)
footprint MF05A_L (SOT23, 5-Leads, Body 2.9x1.6mm, Pitch 0.95mm, Lead Span 2.8mm, IPC High Density)
footprint MF05A_M (SOT23, 5-Leads, Body 2.9x1.6mm, Pitch 0.95mm, Lead Span 2.8mm, IPC Low Density)
pins: 1 SRT, 2 GND (power), 3 VCC1 (power), 4 VCC (power), 5 ~{RST} (oc)

## LP3470IM5-2.83
designator U?
Tiny Power On Reset Circuit; PartNumber: LP3470IM5-2.83; Manufacturer: National Semiconductor; CompType: MiscPower; PackageTopMarking: D39C*XTT; Published: 4-Dec-2008; DatasheetVersion: Sep-2007; PackageVersion: revD, Aug-2008; PackageReference: MF05A; Publisher: Altium Limited; PackageDescription: Molded SOT-23, .115 x .063 x .040 in Body, 5 Lead, .0375 in Pitch; RoHS: Y; PinCount: 5; DigiKeyPartNumber: LP3470IM5-2.83-ND; Code_IPC: SOT23-5; ComponentLink1Description: LP3470 Datasheet; ComponentLink1URL: http://www.national.com/ds/LP/LP3470.pdf; ComponentLink2Description: LP3470 Web Page; ComponentLink2URL: http://www.national.com/pf/LP/LP3470.html; ComponentLink3Description: MF05A Package Page; ComponentLink3URL: http://www.national.com/packaging/folders/mf05a.html
footprint MF05A_N (SOT23, 5-Leads, Body 2.9x1.6mm, Pitch 0.95mm, Lead Span 2.8mm, IPC Medium Density)
footprint MF05A_L (SOT23, 5-Leads, Body 2.9x1.6mm, Pitch 0.95mm, Lead Span 2.8mm, IPC High Density)
footprint MF05A_M (SOT23, 5-Leads, Body 2.9x1.6mm, Pitch 0.95mm, Lead Span 2.8mm, IPC Low Density)
pins: 1 SRT, 2 GND (power), 3 VCC1 (power), 4 VCC (power), 5 ~{RST} (oc)

## LP3470IM5-2.93
designator U?
Tiny Power On Reset Circuit; PartNumber: LP3470IM5-2.93; Manufacturer: National Semiconductor; CompType: MiscPower; PackageTopMarking: D26C*XTT; Published: 4-Dec-2008; DatasheetVersion: Sep-2007; PackageVersion: revD, Aug-2008; PackageReference: MF05A; Publisher: Altium Limited; PackageDescription: Molded SOT-23, .115 x .063 x .040 in Body, 5 Lead, .0375 in Pitch; RoHS: Y; PinCount: 5; DigiKeyPartNumber: LP3470IM5-2.93CT-ND; Code_IPC: SOT23-5; ComponentLink1Description: LP3470 Datasheet; ComponentLink1URL: http://www.national.com/ds/LP/LP3470.pdf; ComponentLink2Description: LP3470 Web Page; ComponentLink2URL: http://www.national.com/pf/LP/LP3470.html; ComponentLink3Description: MF05A Package Page; ComponentLink3URL: http://www.national.com/packaging/folders/mf05a.html
footprint MF05A_N (SOT23, 5-Leads, Body 2.9x1.6mm, Pitch 0.95mm, Lead Span 2.8mm, IPC Medium Density)
footprint MF05A_L (SOT23, 5-Leads, Body 2.9x1.6mm, Pitch 0.95mm, Lead Span 2.8mm, IPC High Density)
footprint MF05A_M (SOT23, 5-Leads, Body 2.9x1.6mm, Pitch 0.95mm, Lead Span 2.8mm, IPC Low Density)
pins: 1 SRT, 2 GND (power), 3 VCC1 (power), 4 VCC (power), 5 ~{RST} (oc)

## LP3470IM5-3.08
designator U?
Tiny Power On Reset Circuit; PartNumber: LP3470IM5-3.08; Manufacturer: National Semiconductor; CompType: MiscPower; PackageTopMarking: D28C*XTT; Published: 4-Dec-2008; DatasheetVersion: Sep-2007; PackageVersion: revD, Aug-2008; PackageReference: MF05A; Publisher: Altium Limited; PackageDescription: Molded SOT-23, .115 x .063 x .040 in Body, 5 Lead, .0375 in Pitch; RoHS: O; PinCount: 5; DigiKeyPartNumber: LP3470IM5-3.08CT-ND; Code_IPC: SOT23-5; ComponentLink1Description: LP3470 Datasheet; ComponentLink1URL: http://www.national.com/ds/LP/LP3470.pdf; ComponentLink2Description: LP3470 Web Page; ComponentLink2URL: http://www.national.com/pf/LP/LP3470.html; ComponentLink3Description: MF05A Package Page; ComponentLink3URL: http://www.national.com/packaging/folders/mf05a.html
footprint MF05A_N (SOT23, 5-Leads, Body 2.9x1.6mm, Pitch 0.95mm, Lead Span 2.8mm, IPC Medium Density)
footprint MF05A_L (SOT23, 5-Leads, Body 2.9x1.6mm, Pitch 0.95mm, Lead Span 2.8mm, IPC High Density)
footprint MF05A_M (SOT23, 5-Leads, Body 2.9x1.6mm, Pitch 0.95mm, Lead Span 2.8mm, IPC Low Density)
pins: 1 SRT, 2 GND (power), 3 VCC1 (power), 4 VCC (power), 5 ~{RST} (oc)

## LP3470IM5-3.65
designator U?
Tiny Power On Reset Circuit; PartNumber: LP3470IM5-3.65; Manufacturer: National Semiconductor; CompType: MiscPower; PackageTopMarking: D37C*XTT; Published: 4-Dec-2008; DatasheetVersion: Sep-2007; PackageVersion: revD, Aug-2008; PackageReference: MF05A; Publisher: Altium Limited; PackageDescription: Molded SOT-23, .115 x .063 x .040 in Body, 5 Lead, .0375 in Pitch; RoHS: Y; PinCount: 5; DigiKeyPartNumber: LP3470IM5-3.65CT-ND; Code_IPC: SOT23-5; ComponentLink1Description: LP3470 Datasheet; ComponentLink1URL: http://www.national.com/ds/LP/LP3470.pdf; ComponentLink2Description: LP3470 Web Page; ComponentLink2URL: http://www.national.com/pf/LP/LP3470.html; ComponentLink3Description: MF05A Package Page; ComponentLink3URL: http://www.national.com/packaging/folders/mf05a.html
footprint MF05A_N (SOT23, 5-Leads, Body 2.9x1.6mm, Pitch 0.95mm, Lead Span 2.8mm, IPC Medium Density)
footprint MF05A_L (SOT23, 5-Leads, Body 2.9x1.6mm, Pitch 0.95mm, Lead Span 2.8mm, IPC High Density)
footprint MF05A_M (SOT23, 5-Leads, Body 2.9x1.6mm, Pitch 0.95mm, Lead Span 2.8mm, IPC Low Density)
pins: 1 SRT, 2 GND (power), 3 VCC1 (power), 4 VCC (power), 5 ~{RST} (oc)

## LP3470IM5-4.00
designator U?
Tiny Power On Reset Circuit; PartNumber: LP3470IM5-4.00; Manufacturer: National Semiconductor; CompType: MiscPower; PackageTopMarking: D29C*XTT; Published: 4-Dec-2008; DatasheetVersion: Sep-2007; PackageVersion: revD, Aug-2008; PackageReference: MF05A; Publisher: Altium Limited; PackageDescription: Molded SOT-23, .115 x .063 x .040 in Body, 5 Lead, .0375 in Pitch; RoHS: Y; PinCount: 5; DigiKeyPartNumber: LP3470IM5-4.00CT-ND; Code_IPC: SOT23-5; ComponentLink1Description: LP3470 Datasheet; ComponentLink1URL: http://www.national.com/ds/LP/LP3470.pdf; ComponentLink2Description: LP3470 Web Page; ComponentLink2URL: http://www.national.com/pf/LP/LP3470.html; ComponentLink3Description: MF05A Package Page; ComponentLink3URL: http://www.national.com/packaging/folders/mf05a.html
footprint MF05A_N (SOT23, 5-Leads, Body 2.9x1.6mm, Pitch 0.95mm, Lead Span 2.8mm, IPC Medium Density)
footprint MF05A_L (SOT23, 5-Leads, Body 2.9x1.6mm, Pitch 0.95mm, Lead Span 2.8mm, IPC High Density)
footprint MF05A_M (SOT23, 5-Leads, Body 2.9x1.6mm, Pitch 0.95mm, Lead Span 2.8mm, IPC Low Density)
pins: 1 SRT, 2 GND (power), 3 VCC1 (power), 4 VCC (power), 5 ~{RST} (oc)

## LP3470IM5-4.8
designator U?
Tiny Power On Reset Circuit; PartNumber: LP3470IM5-4.8; Manufacturer: National Semiconductor; CompType: MiscPower; PackageTopMarking: D15C*XTT; Published: 4-Dec-2008; DatasheetVersion: Sep-2007; PackageVersion: revD, Aug-2008; PackageReference: MF05A; Publisher: Altium Limited; PackageDescription: Molded SOT-23, .115 x .063 x .040 in Body, 5 Lead, .0375 in Pitch; RoHS: Y; PinCount: 5; DigiKeyPartNumber: LP3470IM5-4.8-ND; Code_IPC: SOT23-5; ComponentLink1Description: LP3470 Datasheet; ComponentLink1URL: http://www.national.com/ds/LP/LP3470.pdf; ComponentLink2Description: LP3470 Web Page; ComponentLink2URL: http://www.national.com/pf/LP/LP3470.html; ComponentLink3Description: MF05A Package Page; ComponentLink3URL: http://www.national.com/packaging/folders/mf05a.html
footprint MF05A_N (SOT23, 5-Leads, Body 2.9x1.6mm, Pitch 0.95mm, Lead Span 2.8mm, IPC Medium Density)
footprint MF05A_L (SOT23, 5-Leads, Body 2.9x1.6mm, Pitch 0.95mm, Lead Span 2.8mm, IPC High Density)
footprint MF05A_M (SOT23, 5-Leads, Body 2.9x1.6mm, Pitch 0.95mm, Lead Span 2.8mm, IPC Low Density)
pins: 1 SRT, 2 GND (power), 3 VCC1 (power), 4 VCC (power), 5 ~{RST} (oc)

## LP3470IM5-4.38
designator U?
Tiny Power On Reset Circuit; PartNumber: LP3470IM5-4.38; Manufacturer: National Semiconductor; CompType: MiscPower; PackageTopMarking: D30C*XTT; Published: 4-Dec-2008; DatasheetVersion: Sep-2007; PackageVersion: revD, Aug-2008; PackageReference: MF05A; Publisher: Altium Limited; PackageDescription: Molded SOT-23, .115 x .063 x .040 in Body, 5 Lead, .0375 in Pitch; RoHS: O; PinCount: 5; DigiKeyPartNumber: LP3470IM5-4.38CT-ND; Code_IPC: SOT23-5; ComponentLink1Description: LP3470 Datasheet; ComponentLink1URL: http://www.national.com/ds/LP/LP3470.pdf; ComponentLink2Description: LP3470 Web Page; ComponentLink2URL: http://www.national.com/pf/LP/LP3470.html; ComponentLink3Description: MF05A Package Page; ComponentLink3URL: http://www.national.com/packaging/folders/mf05a.html
footprint MF05A_N (SOT23, 5-Leads, Body 2.9x1.6mm, Pitch 0.95mm, Lead Span 2.8mm, IPC Medium Density)
footprint MF05A_L (SOT23, 5-Leads, Body 2.9x1.6mm, Pitch 0.95mm, Lead Span 2.8mm, IPC High Density)
footprint MF05A_M (SOT23, 5-Leads, Body 2.9x1.6mm, Pitch 0.95mm, Lead Span 2.8mm, IPC Low Density)
pins: 1 SRT, 2 GND (power), 3 VCC1 (power), 4 VCC (power), 5 ~{RST} (oc)

## LP3470IM5-4.63
designator U?
Tiny Power On Reset Circuit; PartNumber: LP3470IM5-4.63; Manufacturer: National Semiconductor; CompType: MiscPower; PackageTopMarking: D31C*XTT; Published: 4-Dec-2008; DatasheetVersion: Sep-2007; PackageVersion: revD, Aug-2008; PackageReference: MF05A; Publisher: Altium Limited; PackageDescription: Molded SOT-23, .115 x .063 x .040 in Body, 5 Lead, .0375 in Pitch; RoHS: O; PinCount: 5; DigiKeyPartNumber: LP3470IM5-4.63CT-ND; Code_IPC: SOT23-5; ComponentLink1Description: LP3470 Datasheet; ComponentLink1URL: http://www.national.com/ds/LP/LP3470.pdf; ComponentLink2Description: LP3470 Web Page; ComponentLink2URL: http://www.national.com/pf/LP/LP3470.html; ComponentLink3Description: MF05A Package Page; ComponentLink3URL: http://www.national.com/packaging/folders/mf05a.html
footprint MF05A_N (SOT23, 5-Leads, Body 2.9x1.6mm, Pitch 0.95mm, Lead Span 2.8mm, IPC Medium Density)
footprint MF05A_L (SOT23, 5-Leads, Body 2.9x1.6mm, Pitch 0.95mm, Lead Span 2.8mm, IPC High Density)
footprint MF05A_M (SOT23, 5-Leads, Body 2.9x1.6mm, Pitch 0.95mm, Lead Span 2.8mm, IPC Low Density)
pins: 1 SRT, 2 GND (power), 3 VCC1 (power), 4 VCC (power), 5 ~{RST} (oc)

## LP3470M5-2.63
designator U?
Tiny Power On Reset Circuit; PartNumber: LP3470M5-2.63; Manufacturer: National Semiconductor; CompType: MiscPower; PackageTopMarking: D25B*XTT; Published: 4-Dec-2008; DatasheetVersion: Sep-2007; PackageVersion: revD, Aug-2008; PackageReference: MF05A; Publisher: Altium Limited; PackageDescription: Molded SOT-23, .115 x .063 x .040 in Body, 5 Lead, .0375 in Pitch; RoHS: O; PinCount: 5; DigiKeyPartNumber: LP3470M5-2.63CT-ND; Code_IPC: SOT23-5; ComponentLink1Description: LP3470 Datasheet; ComponentLink1URL: http://www.national.com/ds/LP/LP3470.pdf; ComponentLink2Description: LP3470 Web Page; ComponentLink2URL: http://www.national.com/pf/LP/LP3470.html; ComponentLink3Description: MF05A Package Page; ComponentLink3URL: http://www.national.com/packaging/folders/mf05a.html
footprint MF05A_N (SOT23, 5-Leads, Body 2.9x1.6mm, Pitch 0.95mm, Lead Span 2.8mm, IPC Medium Density)
footprint MF05A_L (SOT23, 5-Leads, Body 2.9x1.6mm, Pitch 0.95mm, Lead Span 2.8mm, IPC High Density)
footprint MF05A_M (SOT23, 5-Leads, Body 2.9x1.6mm, Pitch 0.95mm, Lead Span 2.8mm, IPC Low Density)
pins: 1 SRT, 2 GND (power), 3 VCC1 (power), 4 VCC (power), 5 ~{RST} (oc)

## LP3470M5-2.93
designator U?
Tiny Power On Reset Circuit; PartNumber: LP3470M5-2.93; Manufacturer: National Semiconductor; CompType: MiscPower; PackageTopMarking: D26B*XTT; Published: 4-Dec-2008; DatasheetVersion: Sep-2007; PackageVersion: revD, Aug-2008; PackageReference: MF05A; Publisher: Altium Limited; PackageDescription: Molded SOT-23, .115 x .063 x .040 in Body, 5 Lead, .0375 in Pitch; RoHS: O; PinCount: 5; DigiKeyPartNumber: LP3470M5-2.93CT-ND; Code_IPC: SOT23-5; ComponentLink1Description: LP3470 Datasheet; ComponentLink1URL: http://www.national.com/ds/LP/LP3470.pdf; ComponentLink2Description: LP3470 Web Page; ComponentLink2URL: http://www.national.com/pf/LP/LP3470.html; ComponentLink3Description: MF05A Package Page; ComponentLink3URL: http://www.national.com/packaging/folders/mf05a.html
footprint MF05A_N (SOT23, 5-Leads, Body 2.9x1.6mm, Pitch 0.95mm, Lead Span 2.8mm, IPC Medium Density)
footprint MF05A_L (SOT23, 5-Leads, Body 2.9x1.6mm, Pitch 0.95mm, Lead Span 2.8mm, IPC High Density)
footprint MF05A_M (SOT23, 5-Leads, Body 2.9x1.6mm, Pitch 0.95mm, Lead Span 2.8mm, IPC Low Density)
pins: 1 SRT, 2 GND (power), 3 VCC1 (power), 4 VCC (power), 5 ~{RST} (oc)

## LP3470M5-3.08
designator U?
Tiny Power On Reset Circuit; PartNumber: LP3470M5-3.08; Manufacturer: National Semiconductor; CompType: MiscPower; PackageTopMarking: D28B*XTT; Published: 4-Dec-2008; DatasheetVersion: Sep-2007; PackageVersion: revD, Aug-2008; PackageReference: MF05A; Publisher: Altium Limited; PackageDescription: Molded SOT-23, .115 x .063 x .040 in Body, 5 Lead, .0375 in Pitch; RoHS: O; PinCount: 5; DigiKeyPartNumber: LP3470M5-3.08CT-ND; Code_IPC: SOT23-5; ComponentLink1Description: LP3470 Datasheet; ComponentLink1URL: http://www.national.com/ds/LP/LP3470.pdf; ComponentLink2Description: LP3470 Web Page; ComponentLink2URL: http://www.national.com/pf/LP/LP3470.html; ComponentLink3Description: MF05A Package Page; ComponentLink3URL: http://www.national.com/packaging/folders/mf05a.html
footprint MF05A_N (SOT23, 5-Leads, Body 2.9x1.6mm, Pitch 0.95mm, Lead Span 2.8mm, IPC Medium Density)
footprint MF05A_L (SOT23, 5-Leads, Body 2.9x1.6mm, Pitch 0.95mm, Lead Span 2.8mm, IPC High Density)
footprint MF05A_M (SOT23, 5-Leads, Body 2.9x1.6mm, Pitch 0.95mm, Lead Span 2.8mm, IPC Low Density)
pins: 1 SRT, 2 GND (power), 3 VCC1 (power), 4 VCC (power), 5 ~{RST} (oc)

## LP3470M5-4.38
designator U?
Tiny Power On Reset Circuit; PartNumber: LP3470M5-4.38; Manufacturer: National Semiconductor; CompType: MiscPower; PackageTopMarking: D30B*XTT; Published: 4-Dec-2008; DatasheetVersion: Sep-2007; PackageVersion: revD, Aug-2008; PackageReference: MF05A; Publisher: Altium Limited; PackageDescription: Molded SOT-23, .115 x .063 x .040 in Body, 5 Lead, .0375 in Pitch; RoHS: Y; PinCount: 5; DigiKeyPartNumber: LP3470M5-4.38CT-ND; Code_IPC: SOT23-5; ComponentLink1Description: LP3470 Datasheet; ComponentLink1URL: http://www.national.com/ds/LP/LP3470.pdf; ComponentLink2Description: LP3470 Web Page; ComponentLink2URL: http://www.national.com/pf/LP/LP3470.html; ComponentLink3Description: MF05A Package Page; ComponentLink3URL: http://www.national.com/packaging/folders/mf05a.html
footprint MF05A_N (SOT23, 5-Leads, Body 2.9x1.6mm, Pitch 0.95mm, Lead Span 2.8mm, IPC Medium Density)
footprint MF05A_L (SOT23, 5-Leads, Body 2.9x1.6mm, Pitch 0.95mm, Lead Span 2.8mm, IPC High Density)
footprint MF05A_M (SOT23, 5-Leads, Body 2.9x1.6mm, Pitch 0.95mm, Lead Span 2.8mm, IPC Low Density)
pins: 1 SRT, 2 GND (power), 3 VCC1 (power), 4 VCC (power), 5 ~{RST} (oc)

## LP3470M5-4.63
designator U?
Tiny Power On Reset Circuit; PartNumber: LP3470M5-4.63; Manufacturer: National Semiconductor; CompType: MiscPower; PackageTopMarking: D31B*XTT; Published: 4-Dec-2008; DatasheetVersion: Sep-2007; PackageVersion: revD, Aug-2008; PackageReference: MF05A; Publisher: Altium Limited; PackageDescription: Molded SOT-23, .115 x .063 x .040 in Body, 5 Lead, .0375 in Pitch; RoHS: O; PinCount: 5; DigiKeyPartNumber: LP3470M5-4.63CT-ND; Code_IPC: SOT23-5; ComponentLink1Description: LP3470 Datasheet; ComponentLink1URL: http://www.national.com/ds/LP/LP3470.pdf; ComponentLink2Description: LP3470 Web Page; ComponentLink2URL: http://www.national.com/pf/LP/LP3470.html; ComponentLink3Description: MF05A Package Page; ComponentLink3URL: http://www.national.com/packaging/folders/mf05a.html
footprint MF05A_N (SOT23, 5-Leads, Body 2.9x1.6mm, Pitch 0.95mm, Lead Span 2.8mm, IPC Medium Density)
footprint MF05A_L (SOT23, 5-Leads, Body 2.9x1.6mm, Pitch 0.95mm, Lead Span 2.8mm, IPC High Density)
footprint MF05A_M (SOT23, 5-Leads, Body 2.9x1.6mm, Pitch 0.95mm, Lead Span 2.8mm, IPC Low Density)
pins: 1 SRT, 2 GND (power), 3 VCC1 (power), 4 VCC (power), 5 ~{RST} (oc)

## LP3905SD-00
designator U?
Power Management Unit For Low Power Handheld Applications; PartNumber: LP3905SD-00; Manufacturer: National Semiconductor; CompType: MiscPower; PackageTopMarking: NS*UZXYTT*3905-00; Published: 4-Dec-2008; DatasheetVersion: Aug-2006; PackageVersion: revA, Jul-2004; PackageReference: SDA14B; Publisher: Altium Limited; PackageDescription: LLP, Plastic, Dual, 4 x 4 x 0.8mm Body, 14 Lead, 0.5mm Pitch, No Pullback; RoHS: Y; PinCount: 14; DigiKeyPartNumber: LP3905SD-00CT-ND; ComponentLink1Description: LP3905 Datasheet; ComponentLink1URL: http://www.national.com/ds/LP/LP3905.pdf; ComponentLink2Description: LP3905 Web Page; ComponentLink2URL: http://www.national.com/pf/LP/LP3905.html; ComponentLink3Description: SDA14B Package Page; ComponentLink3URL: http://www.national.com/packaging/folders/sda14b.html
footprint SDA14B (SON, 14-Leads, Body 4x4mm, Pitch 0.5mm, NSC Recommended)
pins: 1 EN2 (in), 2 TGND (power), 3 LDO2 (out), 4 VIN2 (power), 5 LDO1 (out), 6 GND (power), 7 EN1 (in), 8 FB1 (in), 9 GND_B1 (power), 10 SW1 (power), 11 VIN1 (power), 12 SW2 (power), 13 GND_B2 (power), 14 FB2 (in), 15 SGND (power)

## LP3905SD-30
designator U?
Power Management Unit For Low Power Handheld Applications; PartNumber: LP3905SD-30; Manufacturer: National Semiconductor; CompType: MiscPower; PackageTopMarking: NS*UZXYTT*3905-30; Published: 4-Dec-2008; DatasheetVersion: Aug-2006; PackageVersion: revA, Jul-2004; PackageReference: SDA14B; Publisher: Altium Limited; PackageDescription: LLP, Plastic, Dual, 4 x 4 x 0.8mm Body, 14 Lead, 0.5mm Pitch, No Pullback; RoHS: Y; PinCount: 14; DigiKeyPartNumber: LP3905SD-30EV-ND; ComponentLink1Description: LP3905 Datasheet; ComponentLink1URL: http://www.national.com/ds/LP/LP3905.pdf; ComponentLink2Description: LP3905 Web Page; ComponentLink2URL: http://www.national.com/pf/LP/LP3905.html; ComponentLink3Description: SDA14B Package Page; ComponentLink3URL: http://www.national.com/packaging/folders/sda14b.html
footprint SDA14B (SON, 14-Leads, Body 4x4mm, Pitch 0.5mm, NSC Recommended)
pins: 1 EN2 (in), 2 TGND (power), 3 LDO2 (out), 4 VIN2 (power), 5 LDO1 (out), 6 GND (power), 7 EN1 (in), 8 FB1 (in), 9 GND_B1 (power), 10 SW1 (power), 11 VIN1 (power), 12 SW2 (power), 13 GND_B2 (power), 14 FB2 (in), 15 SGND (power)

## LP3905SD-A3
designator U?
Power Management Unit For Low Power Handheld Applications; PartNumber: LP3905SD-A3; Manufacturer: National Semiconductor; CompType: MiscPower; PackageTopMarking: NS*UZXYTT*3905-A3; Published: 4-Dec-2008; DatasheetVersion: Aug-2006; PackageVersion: revA, Jul-2004; PackageReference: SDA14B; Publisher: Altium Limited; PackageDescription: LLP, Plastic, Dual, 4 x 4 x 0.8mm Body, 14 Lead, 0.5mm Pitch, No Pullback; RoHS: O; PinCount: 14; DigiKeyPartNumber: LP3905SD-A3EV-ND; ComponentLink1Description: LP3905 Datasheet; ComponentLink1URL: http://www.national.com/ds/LP/LP3905.pdf; ComponentLink2Description: LP3905 Web Page; ComponentLink2URL: http://www.national.com/pf/LP/LP3905.html; ComponentLink3Description: SDA14B Package Page; ComponentLink3URL: http://www.national.com/packaging/folders/sda14b.html
footprint SDA14B (SON, 14-Leads, Body 4x4mm, Pitch 0.5mm, NSC Recommended)
pins: 1 EN2 (in), 2 TGND (power), 3 LDO2 (out), 4 VIN2 (power), 5 LDO1 (out), 6 GND (power), 7 EN1 (in), 8 FB1 (in), 9 GND_B1 (power), 10 SW1 (power), 11 VIN1 (power), 12 SW2 (power), 13 GND_B2 (power), 14 FB2 (in), 15 SGND (power)

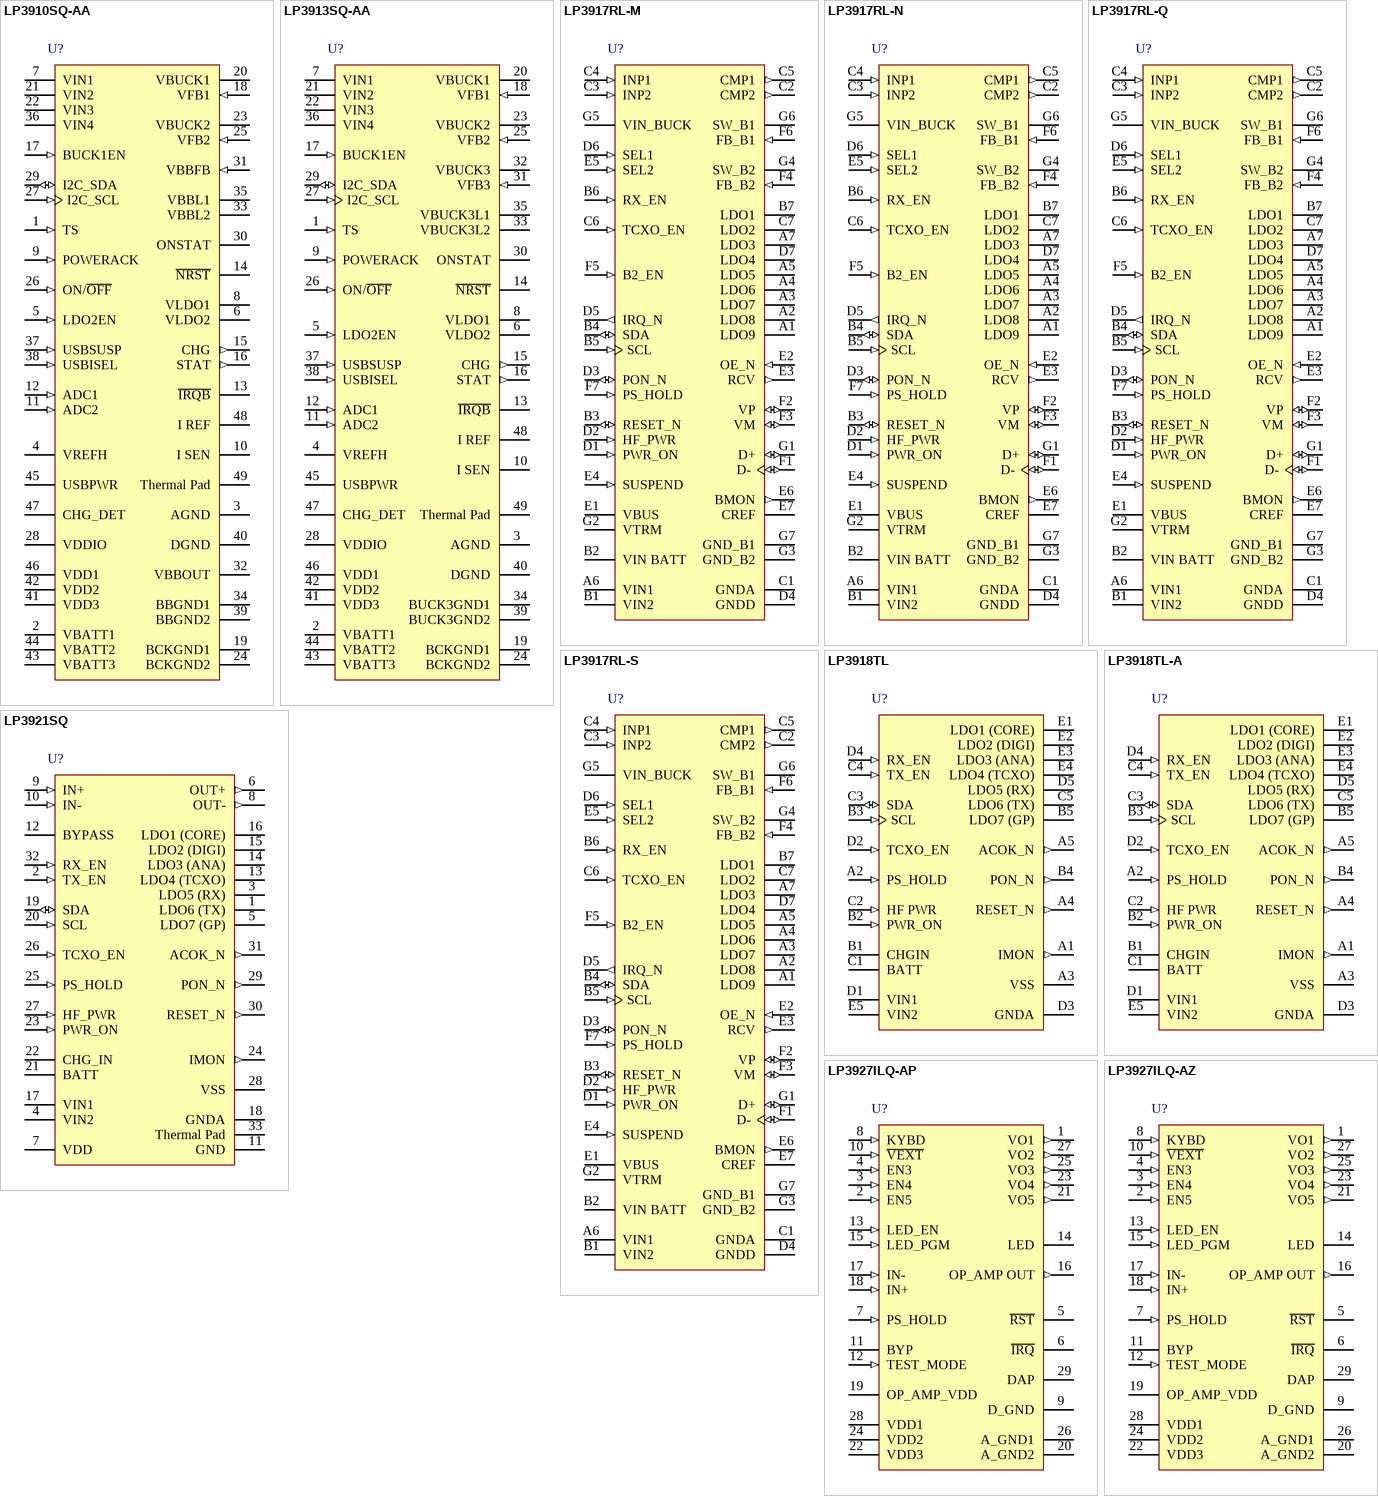
[diagram p18: symbols LP3910SQ-AA to LP3927ILQ-AZ]

## LP3910SQ-AA
designator U?
Power Management IC for Hard Drive Based Portable Media Players; PartNumber: LP3910SQ-AA; Manufacturer: National Semiconductor; CompType: MiscPower; PackageTopMarking: NS*UZXYTT*L3910-AA; Published: 4-Dec-2008; DatasheetVersion: Sep-2008; PackageVersion: revA, May-2004; PackageReference: SQF48A; Publisher: Altium Limited; PackageDescription: LLP, Quad, 6 x 6 x 0.8mm Body, 48 Lead, 0.4mm Pitch, 4.6 x 4.6mm Exposed Pad; RoHS: Y; PinCount: 48; DigiKeyPartNumber: LP3910SQ-AA-ND; ComponentLink1Description: LP3910 Datasheet; ComponentLink1URL: http://www.national.com/ds/LP/LP3910.pdf; ComponentLink2Description: LP3910 Web Page; ComponentLink2URL: http://www.national.com/pf/LP/LP3910.html; ComponentLink3Description: SQF48A Package Page; ComponentLink3URL: http://www.national.com/packaging/folders/sqf48a.html
footprint SQF48A (QFN, 48-Leads, Body 6x6 mm, Pitch 0.4mm, NSC Recommended)
pins: 1 TS (in), 2 VBATT1 (power), 3 AGND (power), 4 VREFH, 5 LDO2EN (in), 6 VLDO2 (power), 7 VIN1 (power), 8 VLDO1 (power), 9 POWERACK (in), 10 I SEN, 11 ADC2 (in), 12 ADC1 (in), 13 ~{IRQB} (oc), 14 ~{NRST} (oc), 15 CHG (out), 16 STAT (out), 17 BUCK1EN (in), 18 VFB1 (in), 19 BCKGND1 (power), 20 VBUCK1 (power), 21 VIN2 (power), 22 VIN3 (power), 23 VBUCK2 (power), 24 BCKGND2 (power), 25 VFB2 (in), 26 ON/~{OFF} (in), 27 I2C_SCL (in), 28 VDDIO (power), 29 I2C_SDA (io), 30 ONSTAT (oc), 31 VBBFB (in), 32 VBBOUT (power), 33 VBBL2, 34 BBGND1 (power), 35 VBBL1, 36 VIN4 (power), 37 USBSUSP (in), 38 USBISEL (in), 39 BBGND2 (power), 40 DGND (power), 41 VDD3 (power), 42 VDD2 (power), 43 VBATT3 (power), 44 VBATT2 (power), 45 USBPWR (power), 46 VDD1 (power), 47 CHG_DET (power), 48 I REF, 49 Thermal Pad (power)